# Altium footprint library MODULE_ZC261500.PcbLib: 1 footprints
Each footprint in its own frame and in the unit in brackets; x right, y up, seen from the top. Pads: shape width x height; smd on the part's side, far side on the other; paste and mask are expansions set on the pad; w line width, h text height; cw(c..) or ccw(c..) is an arc to the next point about the centre after c.
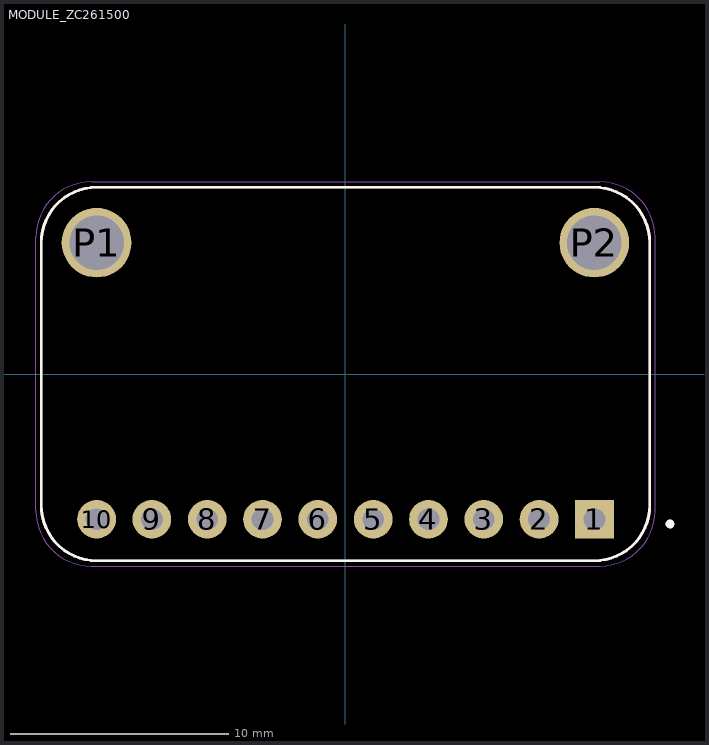
[diagram p0: the footprint, top view; thin cyan lines are the x and y axes]

## MODULE_ZC261500 [mil]
pads (12):
  rect 70x70 hole 39.37: 1(450,-262.5)
  round 70 hole 39.37: 2(350,-262.5) 3(250,-262.5) 4(150,-262.5) 5(50,-262.5) 6(-50,-262.5) 7(-150,-262.5) 8(-250,-262.5) 9(-350,-262.5) 10(-450,-262.5)
  round 125.98 hole 98.43: P1(-450,237.5) P2(450,237.5)
Top Overlay:
  circle w7.87: c586.69,-271.14 r3.94
  lines w5: -550,-237.5 ccw(c-450,-237.5) -450,-337.5 450,-337.5 ccw(c450,-237.5) 550,-237.5 550,237.5 ccw(c450,237.5) 450,337.5 -450,337.5 ccw(c-450,237.5) -550,237.5 -550,-237.5
Mechanical 13:
  circle w7.87: c586.69,-271.14 r3.94
  lines w5: -550,-237.5 ccw(c-450,-237.5) -450,-337.5 450,-337.5 ccw(c450,-237.5) 550,-237.5 550,237.5 ccw(c450,237.5) 450,337.5 -450,337.5 ccw(c-450,237.5) -550,237.5 -550,-237.5
Mechanical 15:
  lines w1.97: -559.84,-247.34 ccw(c-459.84,-247.34) -459.84,-347.34 459.84,-347.34 ccw(c459.84,-247.34) 559.84,-247.34 559.84,247.34 ccw(c459.84,247.34) 459.84,347.34 -459.84,347.34 ccw(c-459.84,247.34) -559.84,247.34 -559.84,-247.34
3D body "16Bit I2C ADC+PGA - ADS1115 (1).stp": height 304.73, standoff 196.85, extent -550,-340 550,340